# EAGLE library part TUSB3210 (library TUSB3x10)
USB Controller 4 x 8bit integrated 8052 microcontroller 8kB RAM code , 512B RAM data
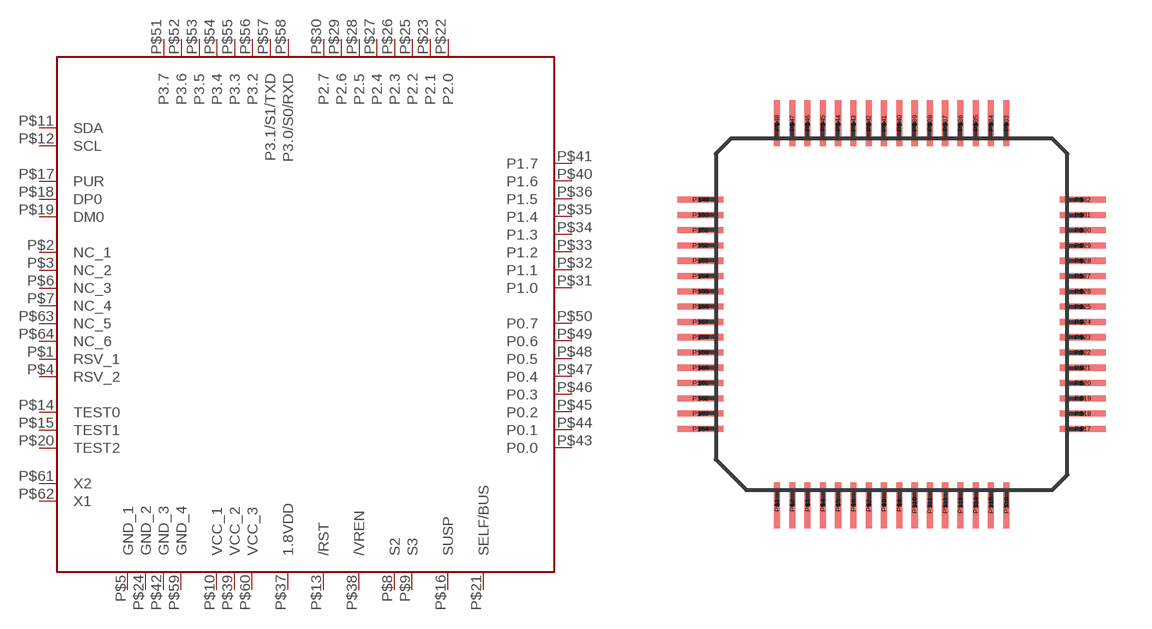
[diagram p1: symbol with the pads of PQFP64; footprint PQFP64]

Designator prefix -

## TUSB3210  [PQFP64]
P$1  RSV_1  nc
P$2  NC_1  nc
P$3  NC_2  nc
P$4  RSV_2  nc
P$5  GND_1  pwr
P$6  NC_3  nc
P$7  NC_4  nc
P$8  S2
P$9  S3
P$10  VCC_1  pwr
P$11  SDA
P$12  SCL
P$13  /RST
P$14  TEST0
P$15  TEST1
P$16  SUSP
P$17  PUR
P$18  DP0
P$19  DM0
P$20  TEST2
P$21  SELF/BUS
P$22  P2.0
P$23  P2.1
P$24  GND_2  pwr
P$25  P2.2
P$26  P2.3
P$27  P2.4
P$28  P2.5
P$29  P2.6
P$30  P2.7
P$31  P1.0
P$32  P1.1
P$33  P1.2
P$34  P1.3
P$35  P1.4
P$36  P1.5
P$37  1.8VDD
P$38  /VREN
P$39  VCC_2  pwr
P$40  P1.6
P$41  P1.7
P$42  GND_3  pwr
P$43  P0.0
P$44  P0.1
P$45  P0.2
P$46  P0.3
P$47  P0.4
P$48  P0.5
P$49  P0.6
P$50  P0.7
P$51  P3.7
P$52  P3.6
P$53  P3.5
P$54  P3.4
P$55  P3.3
P$56  P3.2
P$57  P3.1/S1/TXD
P$58  P3.0/S0/RXD
P$59  GND_4  pwr
P$60  VCC_3  pwr
P$61  X2
P$62  X1
P$63  NC_5  nc
P$64  NC_6  nc

## Footprint PQFP64 (pad centres in mm)
smd 0.2 x 1.5: P$1 0,-0.5; P$2 0.5,-0.5; P$3 1,-0.5; P$4 1.5,-0.5; P$5 2,-0.5; P$6 2.5,-0.5; P$7 3,-0.5; P$8 3.5,-0.5; P$9 4,-0.5; P$10 4.5,-0.5; P$11 5,-0.5; P$12 5.5,-0.5; P$13 6,-0.5; P$14 6.5,-0.5; P$15 7,-0.5; P$16 7.5,-0.5; P$33 7.5,12; P$34 7,12; P$35 6.5,12; P$36 6,12; P$37 5.5,12; P$38 5,12; P$39 4.5,12; P$40 4,12; P$41 3.5,12; P$42 3,12; P$43 2.5,12; P$44 2,12; P$45 1.5,12; P$46 1,12; P$47 0.5,12; P$48 0,12
smd 1.5 x 0.2: P$17 10,2; P$18 10,2.5; P$19 10,3; P$20 10,3.5; P$21 10,4; P$22 10,4.5; P$23 10,5; P$24 10,5.5; P$25 10,6; P$26 10,6.5; P$27 10,7; P$28 10,7.5; P$29 10,8; P$30 10,8.5; P$31 10,9; P$32 10,9.5; P$49 -2.5,9.5; P$50 -2.5,9; P$51 -2.5,8.5; P$52 -2.5,8; P$53 -2.5,7.5; P$54 -2.5,7; P$55 -2.5,6.5; P$56 -2.5,6; P$57 -2.5,5.5; P$58 -2.5,5; P$59 -2.5,4.5; P$60 -2.5,4; P$61 -2.5,3.5; P$62 -2.5,3; P$63 -2.5,2.5; P$64 -2.5,2